# Altium integrated library National Semiconductor Interface.IntLib: 1433 symbols (part 16 of 51)
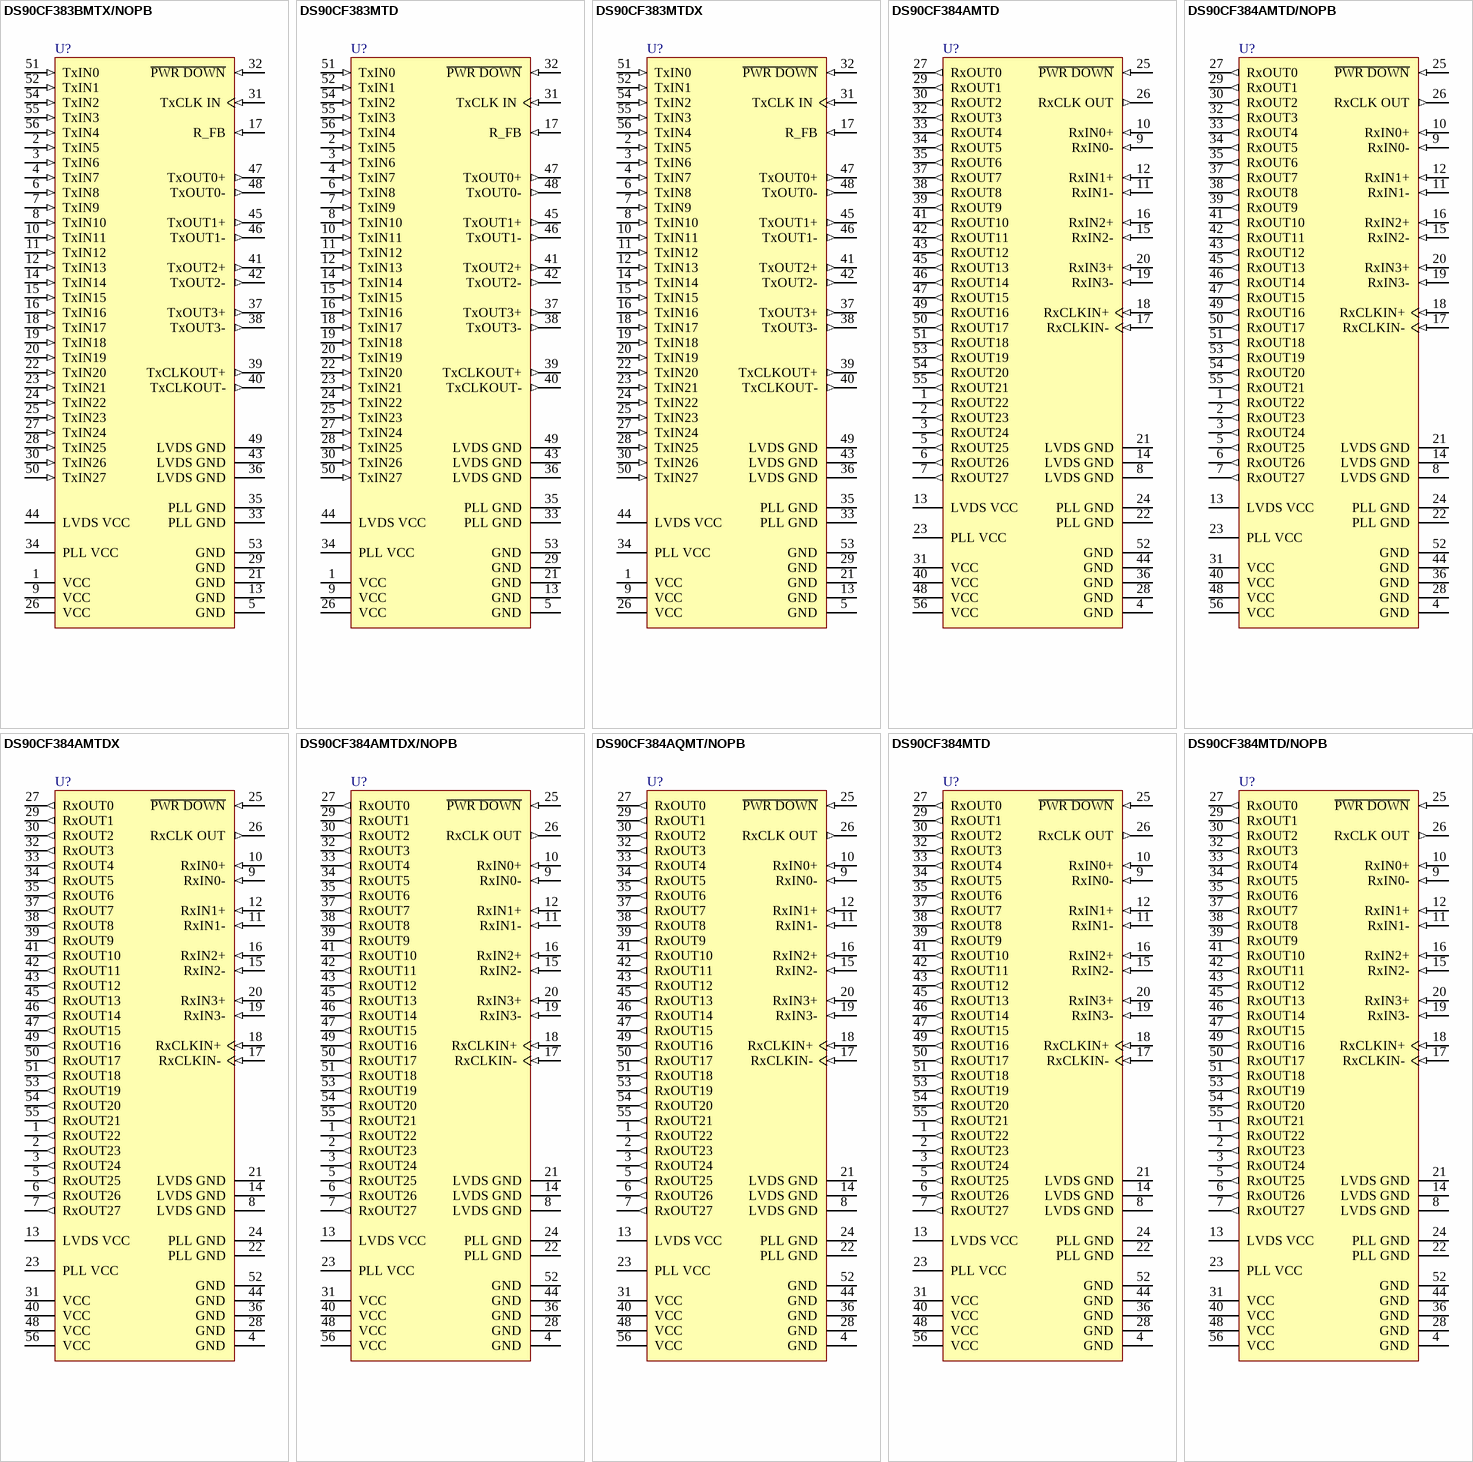
[diagram p139: symbols DS90CF383BMTX/NOPB to DS90CF384MTD/NOPB]

## DS90CF384AMTDX/NOPB
designator U?
+3.3V LVDS Receiver 24-Bit Flat Panel Display (FPD) Link - 65 MHz, 56-pin TSSOP, Pb-Free; PartNumber: DS90CF384AMTDX/NOPB; Manufacturer: National Semiconductor; PackageTopMarking: NS2ZXYTTE#*DS90CF384AMTD*BBBBB; PowerWise: N; CompType: Interface IC; High-Reliability: Y; DatasheetVersion: Jul-2007; PackageVersion: revD, Apr-2003; PackageReference: MTD56; PackageDescription: Molded TSSOP, Jedec, 14 x 6.1 x 0.9mm Body, 56 Lead, 0.50mm Pitch; RoHS: Y; PinCount: 56; Code_IPC: TSSOP50P810-56; ComponentLink1Description: Manufacturer URL; ComponentLink1URL: http://www.national.com/; ComponentLink2Description: DS90CF384A Datasheet; ComponentLink2URL: http://www.national.com/ds/DS/DS90CF384A.pdf; ComponentLink3Description: DS90CF384A Web Page; ComponentLink3URL: http://www.national.com/pf/DS/DS90CF384A.html; ComponentLink4Description: MTD56 Package Page; ComponentLink4URL: http://www.national.com/packaging/folders/mtd56.html
footprint MTD56_N (TSSOP, 56-Leads, Body 14x6.1mm, Pitch 0.5mm, IPC Medium Density)
footprint MTD56_L (TSSOP, 56-Leads, Body 14x6.1mm, Pitch 0.5mm, IPC High Density)
footprint MTD56_M (TSSOP, 56-Leads, Body 14x6.1mm, Pitch 0.5mm, IPC Low Density)
pins: 1 RxOUT22 (out), 2 RxOUT23 (out), 3 RxOUT24 (out), 4 GND (power), 5 RxOUT25 (out), 6 RxOUT26 (out), 7 RxOUT27 (out), 8 LVDS GND (power), 9 RxIN0- (in), 10 RxIN0+ (in), 11 RxIN1- (in), 12 RxIN1+ (in), 13 LVDS VCC (power), 14 LVDS GND (power), 15 RxIN2- (in), 16 RxIN2+ (in), 17 RxCLKIN- (in), 18 RxCLKIN+ (in), 19 RxIN3- (in), 20 RxIN3+ (in), 21 LVDS GND (power), 22 PLL GND (power), 23 PLL VCC (power), 24 PLL GND (power), 25 ~{PWR DOWN} (in), 26 RxCLK OUT (out), 27 RxOUT0 (out), 28 GND (power), 29 RxOUT1 (out), 30 RxOUT2 (out), 31 VCC (power), 32 RxOUT3 (out), 33 RxOUT4 (out), 34 RxOUT5 (out), 35 RxOUT6 (out), 36 GND (power), 37 RxOUT7 (out), 38 RxOUT8 (out), 39 RxOUT9 (out), 40 VCC (power), 41 RxOUT10 (out), 42 RxOUT11 (out), 43 RxOUT12 (out), 44 GND (power), 45 RxOUT13 (out), 46 RxOUT14 (out), 47 RxOUT15 (out), 48 VCC (power), 49 RxOUT16 (out), 50 RxOUT17 (out), 51 RxOUT18 (out), 52 GND (power), 53 RxOUT19 (out), 54 RxOUT20 (out), 55 RxOUT21 (out), 56 VCC (power)

## DS90CF384AQMT/NOPB
designator U?
+3.3V LVDS Receiver 24-Bit Flat Panel Display (FPD) Link - 65MHz, Automotive Grade 3, -40°C to 85°C, 56-pin TSSOP; PartNumber: DS90CF384AQMT/NOPB; Manufacturer: National Semiconductor; PackageTopMarking: NSUZXYTTE#*DS90CF384AQ*MT; PowerWise: N; CompType: Interface IC; High-Reliability: Y; DatasheetVersion: Aug-2011; PackageVersion: revD, Apr-2003; PackageReference: MTD56; PackageDescription: Molded TSSOP, Jedec, 14 x 6.1 x 0.9mm Body, 56 Lead, 0.50mm Pitch; RoHS: Y; PinCount: 56; Code_IPC: TSSOP50P810-56; ComponentLink1Description: Manufacturer URL; ComponentLink1URL: http://www.national.com/; ComponentLink2Description: DS90CF384A Datasheet; ComponentLink2URL: http://www.national.com/ds/DS/DS90CF384AQ.pdf; ComponentLink3Description: DS90CF384A Web Page; ComponentLink3URL: http://www.national.com/pf/DS/DS90CF384AQ.html; ComponentLink4Description: MTD56 Package Page; ComponentLink4URL: http://www.national.com/packaging/folders/mtd56.html
footprint MTD56_N (TSSOP, 56-Leads, Body 14x6.1mm, Pitch 0.5mm, IPC Medium Density)
footprint MTD56_L (TSSOP, 56-Leads, Body 14x6.1mm, Pitch 0.5mm, IPC High Density)
footprint MTD56_M (TSSOP, 56-Leads, Body 14x6.1mm, Pitch 0.5mm, IPC Low Density)
pins: 1 RxOUT22 (out), 2 RxOUT23 (out), 3 RxOUT24 (out), 4 GND (power), 5 RxOUT25 (out), 6 RxOUT26 (out), 7 RxOUT27 (out), 8 LVDS GND (power), 9 RxIN0- (in), 10 RxIN0+ (in), 11 RxIN1- (in), 12 RxIN1+ (in), 13 LVDS VCC (power), 14 LVDS GND (power), 15 RxIN2- (in), 16 RxIN2+ (in), 17 RxCLKIN- (in), 18 RxCLKIN+ (in), 19 RxIN3- (in), 20 RxIN3+ (in), 21 LVDS GND (power), 22 PLL GND (power), 23 PLL VCC (power), 24 PLL GND (power), 25 ~{PWR DOWN} (in), 26 RxCLK OUT (out), 27 RxOUT0 (out), 28 GND (power), 29 RxOUT1 (out), 30 RxOUT2 (out), 31 VCC (power), 32 RxOUT3 (out), 33 RxOUT4 (out), 34 RxOUT5 (out), 35 RxOUT6 (out), 36 GND (power), 37 RxOUT7 (out), 38 RxOUT8 (out), 39 RxOUT9 (out), 40 VCC (power), 41 RxOUT10 (out), 42 RxOUT11 (out), 43 RxOUT12 (out), 44 GND (power), 45 RxOUT13 (out), 46 RxOUT14 (out), 47 RxOUT15 (out), 48 VCC (power), 49 RxOUT16 (out), 50 RxOUT17 (out), 51 RxOUT18 (out), 52 GND (power), 53 RxOUT19 (out), 54 RxOUT20 (out), 55 RxOUT21 (out), 56 VCC (power)

## DS90CF384MTD
designator U?
+3.3V LVDS Receiver 24-Bit Flat Panel Display (FPD) Link - 65 MHz, 56-pin TSSOP; PartNumber: DS90CF384MTD; Manufacturer: National Semiconductor; PackageTopMarking: NS2ZXYTTE#*DS90CF384MTD*BBBBB; PowerWise: N; CompType: Interface IC; High-Reliability: Y; DatasheetVersion: Nov-2000; PackageVersion: revD, Apr-2003; PackageReference: MTD56; PackageDescription: Molded TSSOP, Jedec, 14 x 6.1 x 0.9mm Body, 56 Lead, 0.50mm Pitch; RoHS: N; PinCount: 56; Code_IPC: TSSOP50P810-56; ComponentLink1Description: Manufacturer URL; ComponentLink1URL: http://www.national.com/; ComponentLink2Description: DS90CF384 Datasheet; ComponentLink2URL: http://www.national.com/ds/DS/DS90CF384.pdf; ComponentLink3Description: DS90CF384 Web Page; ComponentLink3URL: http://www.national.com/pf/DS/DS90CF384.html; ComponentLink4Description: MTD56 Package Page; ComponentLink4URL: http://www.national.com/packaging/folders/mtd56.html
footprint MTD56_N (TSSOP, 56-Leads, Body 14x6.1mm, Pitch 0.5mm, IPC Medium Density)
footprint MTD56_L (TSSOP, 56-Leads, Body 14x6.1mm, Pitch 0.5mm, IPC High Density)
footprint MTD56_M (TSSOP, 56-Leads, Body 14x6.1mm, Pitch 0.5mm, IPC Low Density)
pins: 1 RxOUT22 (out), 2 RxOUT23 (out), 3 RxOUT24 (out), 4 GND (power), 5 RxOUT25 (out), 6 RxOUT26 (out), 7 RxOUT27 (out), 8 LVDS GND (power), 9 RxIN0- (in), 10 RxIN0+ (in), 11 RxIN1- (in), 12 RxIN1+ (in), 13 LVDS VCC (power), 14 LVDS GND (power), 15 RxIN2- (in), 16 RxIN2+ (in), 17 RxCLKIN- (in), 18 RxCLKIN+ (in), 19 RxIN3- (in), 20 RxIN3+ (in), 21 LVDS GND (power), 22 PLL GND (power), 23 PLL VCC (power), 24 PLL GND (power), 25 ~{PWR DOWN} (in), 26 RxCLK OUT (out), 27 RxOUT0 (out), 28 GND (power), 29 RxOUT1 (out), 30 RxOUT2 (out), 31 VCC (power), 32 RxOUT3 (out), 33 RxOUT4 (out), 34 RxOUT5 (out), 35 RxOUT6 (out), 36 GND (power), 37 RxOUT7 (out), 38 RxOUT8 (out), 39 RxOUT9 (out), 40 VCC (power), 41 RxOUT10 (out), 42 RxOUT11 (out), 43 RxOUT12 (out), 44 GND (power), 45 RxOUT13 (out), 46 RxOUT14 (out), 47 RxOUT15 (out), 48 VCC (power), 49 RxOUT16 (out), 50 RxOUT17 (out), 51 RxOUT18 (out), 52 GND (power), 53 RxOUT19 (out), 54 RxOUT20 (out), 55 RxOUT21 (out), 56 VCC (power)

## DS90CF384MTD/NOPB
designator U?
+3.3V LVDS Receiver 24-Bit Flat Panel Display (FPD) Link - 65 MHz, 56-pin TSSOP, Pb-Free; PartNumber: DS90CF384MTD/NOPB; Manufacturer: National Semiconductor; PackageTopMarking: NS2ZXYTTE#*DS90CF384MTD*BBBBB; PowerWise: N; CompType: Interface IC; High-Reliability: Y; DatasheetVersion: Nov-2000; PackageVersion: revD, Apr-2003; PackageReference: MTD56; PackageDescription: Molded TSSOP, Jedec, 14 x 6.1 x 0.9mm Body, 56 Lead, 0.50mm Pitch; RoHS: Y; PinCount: 56; Code_IPC: TSSOP50P810-56; ComponentLink1Description: Manufacturer URL; ComponentLink1URL: http://www.national.com/; ComponentLink2Description: DS90CF384 Datasheet; ComponentLink2URL: http://www.national.com/ds/DS/DS90CF384.pdf; ComponentLink3Description: DS90CF384 Web Page; ComponentLink3URL: http://www.national.com/pf/DS/DS90CF384.html; ComponentLink4Description: MTD56 Package Page; ComponentLink4URL: http://www.national.com/packaging/folders/mtd56.html
footprint MTD56_N (TSSOP, 56-Leads, Body 14x6.1mm, Pitch 0.5mm, IPC Medium Density)
footprint MTD56_L (TSSOP, 56-Leads, Body 14x6.1mm, Pitch 0.5mm, IPC High Density)
footprint MTD56_M (TSSOP, 56-Leads, Body 14x6.1mm, Pitch 0.5mm, IPC Low Density)
pins: 1 RxOUT22 (out), 2 RxOUT23 (out), 3 RxOUT24 (out), 4 GND (power), 5 RxOUT25 (out), 6 RxOUT26 (out), 7 RxOUT27 (out), 8 LVDS GND (power), 9 RxIN0- (in), 10 RxIN0+ (in), 11 RxIN1- (in), 12 RxIN1+ (in), 13 LVDS VCC (power), 14 LVDS GND (power), 15 RxIN2- (in), 16 RxIN2+ (in), 17 RxCLKIN- (in), 18 RxCLKIN+ (in), 19 RxIN3- (in), 20 RxIN3+ (in), 21 LVDS GND (power), 22 PLL GND (power), 23 PLL VCC (power), 24 PLL GND (power), 25 ~{PWR DOWN} (in), 26 RxCLK OUT (out), 27 RxOUT0 (out), 28 GND (power), 29 RxOUT1 (out), 30 RxOUT2 (out), 31 VCC (power), 32 RxOUT3 (out), 33 RxOUT4 (out), 34 RxOUT5 (out), 35 RxOUT6 (out), 36 GND (power), 37 RxOUT7 (out), 38 RxOUT8 (out), 39 RxOUT9 (out), 40 VCC (power), 41 RxOUT10 (out), 42 RxOUT11 (out), 43 RxOUT12 (out), 44 GND (power), 45 RxOUT13 (out), 46 RxOUT14 (out), 47 RxOUT15 (out), 48 VCC (power), 49 RxOUT16 (out), 50 RxOUT17 (out), 51 RxOUT18 (out), 52 GND (power), 53 RxOUT19 (out), 54 RxOUT20 (out), 55 RxOUT21 (out), 56 VCC (power)

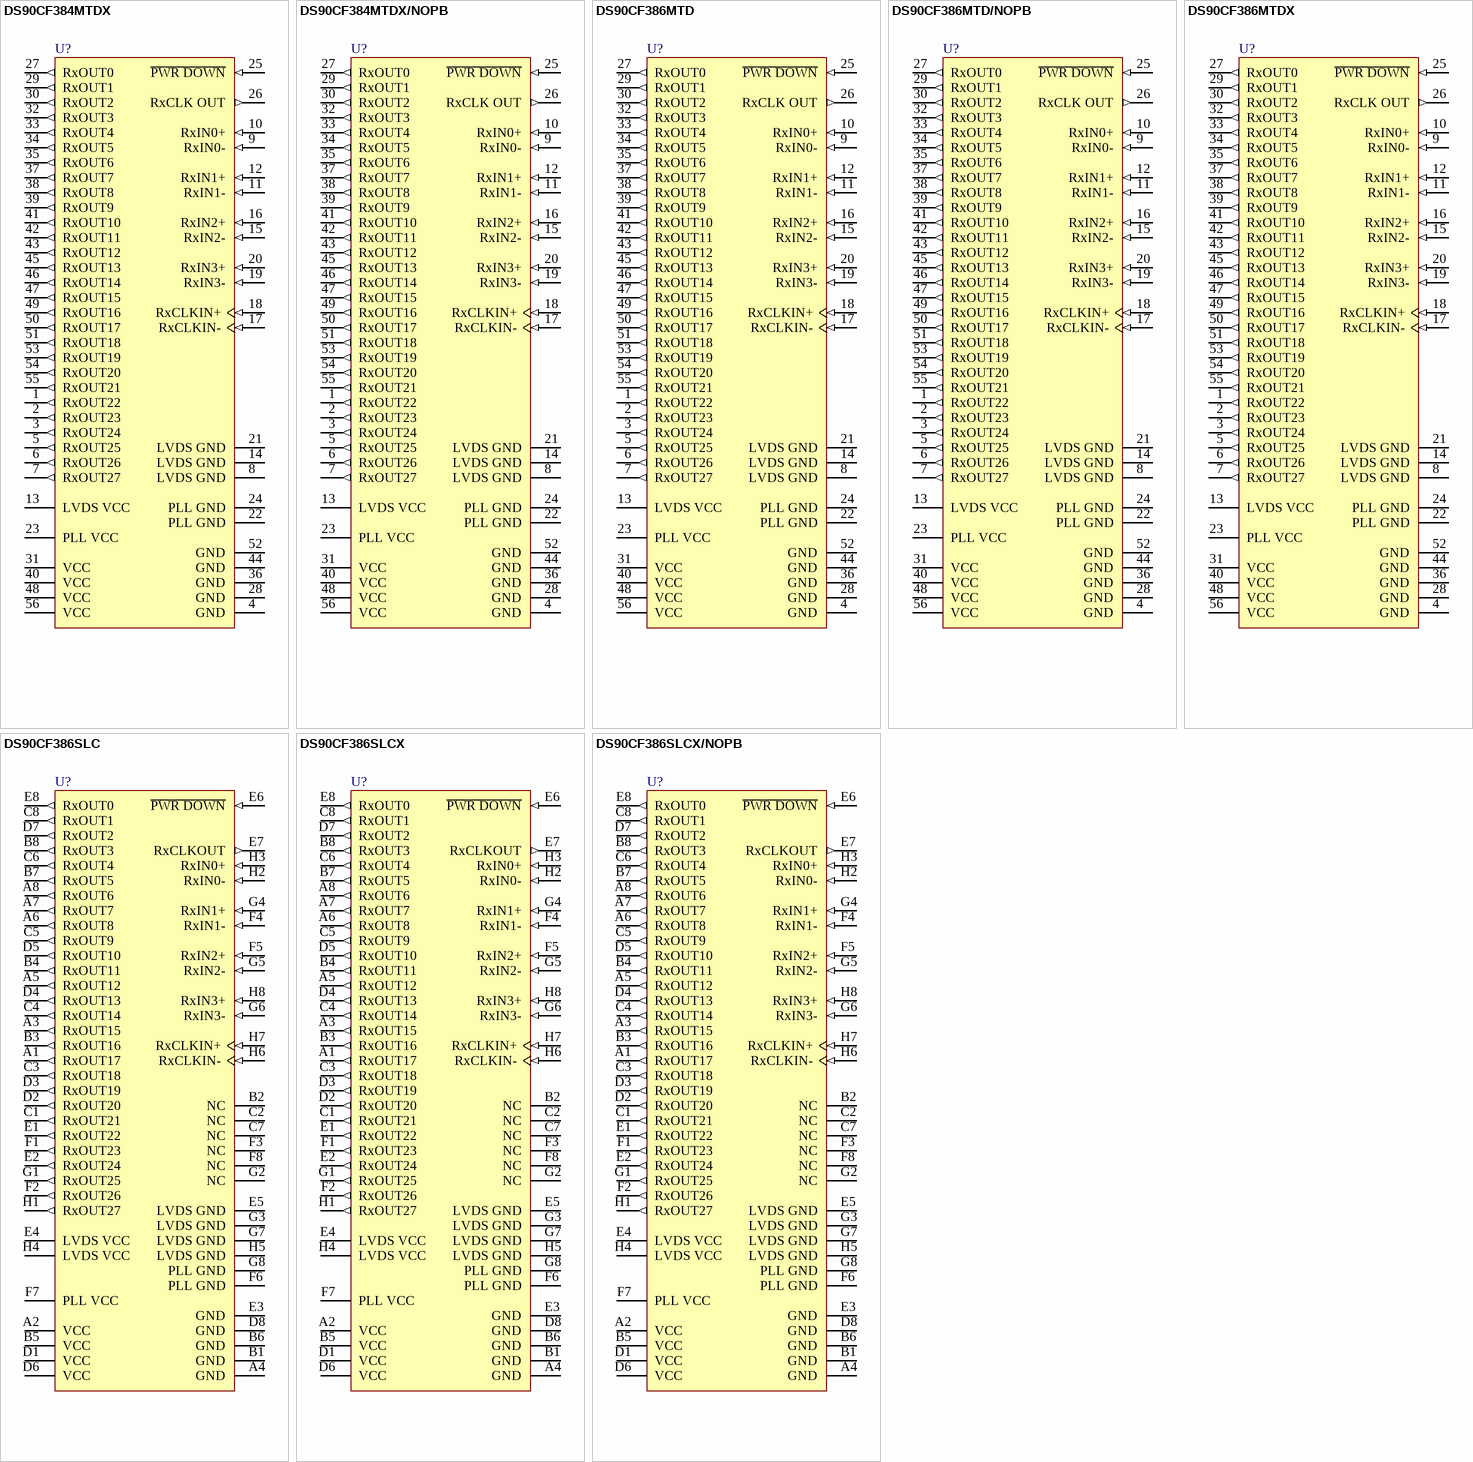
[diagram p41: symbols DS90CF384MTDX to DS90CF386SLCX/NOPB]

## DS90CF384MTDX
designator U?
+3.3V LVDS Receiver 24-Bit Flat Panel Display (FPD) Link - 65 MHz, 56-pin TSSOP; PartNumber: DS90CF384MTDX; Manufacturer: National Semiconductor; PackageTopMarking: NS2ZXYTTE#*DS90CF384MTD*BBBBB; PowerWise: N; CompType: Interface IC; High-Reliability: Y; DatasheetVersion: Nov-2000; PackageVersion: revD, Apr-2003; PackageReference: MTD56; PackageDescription: Molded TSSOP, Jedec, 14 x 6.1 x 0.9mm Body, 56 Lead, 0.50mm Pitch; RoHS: N; PinCount: 56; Code_IPC: TSSOP50P810-56; ComponentLink1Description: Manufacturer URL; ComponentLink1URL: http://www.national.com/; ComponentLink2Description: DS90CF384 Datasheet; ComponentLink2URL: http://www.national.com/ds/DS/DS90CF384.pdf; ComponentLink3Description: DS90CF384 Web Page; ComponentLink3URL: http://www.national.com/pf/DS/DS90CF384.html; ComponentLink4Description: MTD56 Package Page; ComponentLink4URL: http://www.national.com/packaging/folders/mtd56.html
footprint MTD56_N (TSSOP, 56-Leads, Body 14x6.1mm, Pitch 0.5mm, IPC Medium Density)
footprint MTD56_L (TSSOP, 56-Leads, Body 14x6.1mm, Pitch 0.5mm, IPC High Density)
footprint MTD56_M (TSSOP, 56-Leads, Body 14x6.1mm, Pitch 0.5mm, IPC Low Density)
pins: 1 RxOUT22 (out), 2 RxOUT23 (out), 3 RxOUT24 (out), 4 GND (power), 5 RxOUT25 (out), 6 RxOUT26 (out), 7 RxOUT27 (out), 8 LVDS GND (power), 9 RxIN0- (in), 10 RxIN0+ (in), 11 RxIN1- (in), 12 RxIN1+ (in), 13 LVDS VCC (power), 14 LVDS GND (power), 15 RxIN2- (in), 16 RxIN2+ (in), 17 RxCLKIN- (in), 18 RxCLKIN+ (in), 19 RxIN3- (in), 20 RxIN3+ (in), 21 LVDS GND (power), 22 PLL GND (power), 23 PLL VCC (power), 24 PLL GND (power), 25 ~{PWR DOWN} (in), 26 RxCLK OUT (out), 27 RxOUT0 (out), 28 GND (power), 29 RxOUT1 (out), 30 RxOUT2 (out), 31 VCC (power), 32 RxOUT3 (out), 33 RxOUT4 (out), 34 RxOUT5 (out), 35 RxOUT6 (out), 36 GND (power), 37 RxOUT7 (out), 38 RxOUT8 (out), 39 RxOUT9 (out), 40 VCC (power), 41 RxOUT10 (out), 42 RxOUT11 (out), 43 RxOUT12 (out), 44 GND (power), 45 RxOUT13 (out), 46 RxOUT14 (out), 47 RxOUT15 (out), 48 VCC (power), 49 RxOUT16 (out), 50 RxOUT17 (out), 51 RxOUT18 (out), 52 GND (power), 53 RxOUT19 (out), 54 RxOUT20 (out), 55 RxOUT21 (out), 56 VCC (power)

## DS90CF384MTDX/NOPB
designator U?
+3.3V LVDS Receiver 24-Bit Flat Panel Display (FPD) Link - 65 MHz, 56-pin TSSOP, Pb-Free; PartNumber: DS90CF384MTDX/NOPB; Manufacturer: National Semiconductor; PackageTopMarking: NS2ZXYTTE#*DS90CF384MTD*BBBBB; PowerWise: N; CompType: Interface IC; High-Reliability: Y; DatasheetVersion: Nov-2000; PackageVersion: revD, Apr-2003; PackageReference: MTD56; PackageDescription: Molded TSSOP, Jedec, 14 x 6.1 x 0.9mm Body, 56 Lead, 0.50mm Pitch; RoHS: Y; PinCount: 56; Code_IPC: TSSOP50P810-56; ComponentLink1Description: Manufacturer URL; ComponentLink1URL: http://www.national.com/; ComponentLink2Description: DS90CF384 Datasheet; ComponentLink2URL: http://www.national.com/ds/DS/DS90CF384.pdf; ComponentLink3Description: DS90CF384 Web Page; ComponentLink3URL: http://www.national.com/pf/DS/DS90CF384.html; ComponentLink4Description: MTD56 Package Page; ComponentLink4URL: http://www.national.com/packaging/folders/mtd56.html
footprint MTD56_N (TSSOP, 56-Leads, Body 14x6.1mm, Pitch 0.5mm, IPC Medium Density)
footprint MTD56_L (TSSOP, 56-Leads, Body 14x6.1mm, Pitch 0.5mm, IPC High Density)
footprint MTD56_M (TSSOP, 56-Leads, Body 14x6.1mm, Pitch 0.5mm, IPC Low Density)
pins: 1 RxOUT22 (out), 2 RxOUT23 (out), 3 RxOUT24 (out), 4 GND (power), 5 RxOUT25 (out), 6 RxOUT26 (out), 7 RxOUT27 (out), 8 LVDS GND (power), 9 RxIN0- (in), 10 RxIN0+ (in), 11 RxIN1- (in), 12 RxIN1+ (in), 13 LVDS VCC (power), 14 LVDS GND (power), 15 RxIN2- (in), 16 RxIN2+ (in), 17 RxCLKIN- (in), 18 RxCLKIN+ (in), 19 RxIN3- (in), 20 RxIN3+ (in), 21 LVDS GND (power), 22 PLL GND (power), 23 PLL VCC (power), 24 PLL GND (power), 25 ~{PWR DOWN} (in), 26 RxCLK OUT (out), 27 RxOUT0 (out), 28 GND (power), 29 RxOUT1 (out), 30 RxOUT2 (out), 31 VCC (power), 32 RxOUT3 (out), 33 RxOUT4 (out), 34 RxOUT5 (out), 35 RxOUT6 (out), 36 GND (power), 37 RxOUT7 (out), 38 RxOUT8 (out), 39 RxOUT9 (out), 40 VCC (power), 41 RxOUT10 (out), 42 RxOUT11 (out), 43 RxOUT12 (out), 44 GND (power), 45 RxOUT13 (out), 46 RxOUT14 (out), 47 RxOUT15 (out), 48 VCC (power), 49 RxOUT16 (out), 50 RxOUT17 (out), 51 RxOUT18 (out), 52 GND (power), 53 RxOUT19 (out), 54 RxOUT20 (out), 55 RxOUT21 (out), 56 VCC (power)

## DS90CF386MTD
designator U?
+3.3V LVDS Receiver 24-Bit Flat Panel Display (FPD) Link - 85 MHz, 56-pin TSSOP; PartNumber: DS90CF386MTD; Manufacturer: National Semiconductor; PackageTopMarking: NSUZXYTTE#*DS90CF386MTD*BBBBB; PowerWise: N; CompType: Interface IC; High-Reliability: Y; DatasheetVersion: Feb-2006; PackageVersion: revD, Apr-2003; PackageReference: MTD56; PackageDescription: Molded TSSOP, Jedec, 14 x 6.1 x 0.9mm Body, 56 Lead, 0.50mm Pitch; RoHS: N; PinCount: 56; Code_IPC: TSSOP50P810-56; ComponentLink1Description: Manufacturer URL; ComponentLink1URL: http://www.national.com/; ComponentLink2Description: DS90CF386 Datasheet; ComponentLink2URL: http://www.national.com/ds/DS/DS90CF386.pdf; ComponentLink3Description: DS90CF386 Web Page; ComponentLink3URL: http://www.national.com/pf/DS/DS90CF386.html; ComponentLink4Description: MTD56 Package Page; ComponentLink4URL: http://www.national.com/packaging/folders/mtd56.html
footprint MTD56_N (TSSOP, 56-Leads, Body 14x6.1mm, Pitch 0.5mm, IPC Medium Density)
footprint MTD56_L (TSSOP, 56-Leads, Body 14x6.1mm, Pitch 0.5mm, IPC High Density)
footprint MTD56_M (TSSOP, 56-Leads, Body 14x6.1mm, Pitch 0.5mm, IPC Low Density)
pins: 1 RxOUT22 (out), 2 RxOUT23 (out), 3 RxOUT24 (out), 4 GND (power), 5 RxOUT25 (out), 6 RxOUT26 (out), 7 RxOUT27 (out), 8 LVDS GND (power), 9 RxIN0- (in), 10 RxIN0+ (in), 11 RxIN1- (in), 12 RxIN1+ (in), 13 LVDS VCC (power), 14 LVDS GND (power), 15 RxIN2- (in), 16 RxIN2+ (in), 17 RxCLKIN- (in), 18 RxCLKIN+ (in), 19 RxIN3- (in), 20 RxIN3+ (in), 21 LVDS GND (power), 22 PLL GND (power), 23 PLL VCC (power), 24 PLL GND (power), 25 ~{PWR DOWN} (in), 26 RxCLK OUT (out), 27 RxOUT0 (out), 28 GND (power), 29 RxOUT1 (out), 30 RxOUT2 (out), 31 VCC (power), 32 RxOUT3 (out), 33 RxOUT4 (out), 34 RxOUT5 (out), 35 RxOUT6 (out), 36 GND (power), 37 RxOUT7 (out), 38 RxOUT8 (out), 39 RxOUT9 (out), 40 VCC (power), 41 RxOUT10 (out), 42 RxOUT11 (out), 43 RxOUT12 (out), 44 GND (power), 45 RxOUT13 (out), 46 RxOUT14 (out), 47 RxOUT15 (out), 48 VCC (power), 49 RxOUT16 (out), 50 RxOUT17 (out), 51 RxOUT18 (out), 52 GND (power), 53 RxOUT19 (out), 54 RxOUT20 (out), 55 RxOUT21 (out), 56 VCC (power)

## DS90CF386MTD/NOPB
designator U?
+3.3V LVDS Receiver 24-Bit Flat Panel Display (FPD) Link - 85 MHz, 56-pin TSSOP, Pb-Free; PartNumber: DS90CF386MTD/NOPB; Manufacturer: National Semiconductor; PackageTopMarking: NSUZXYTTE#*DS90CF386MTD*BBBBB; PowerWise: N; CompType: Interface IC; High-Reliability: Y; DatasheetVersion: Feb-2006; PackageVersion: revD, Apr-2003; PackageReference: MTD56; PackageDescription: Molded TSSOP, Jedec, 14 x 6.1 x 0.9mm Body, 56 Lead, 0.50mm Pitch; RoHS: Y; PinCount: 56; Code_IPC: TSSOP50P810-56; ComponentLink1Description: Manufacturer URL; ComponentLink1URL: http://www.national.com/; ComponentLink2Description: DS90CF386 Datasheet; ComponentLink2URL: http://www.national.com/ds/DS/DS90CF386.pdf; ComponentLink3Description: DS90CF386 Web Page; ComponentLink3URL: http://www.national.com/pf/DS/DS90CF386.html; ComponentLink4Description: MTD56 Package Page; ComponentLink4URL: http://www.national.com/packaging/folders/mtd56.html
footprint MTD56_N (TSSOP, 56-Leads, Body 14x6.1mm, Pitch 0.5mm, IPC Medium Density)
footprint MTD56_L (TSSOP, 56-Leads, Body 14x6.1mm, Pitch 0.5mm, IPC High Density)
footprint MTD56_M (TSSOP, 56-Leads, Body 14x6.1mm, Pitch 0.5mm, IPC Low Density)
pins: 1 RxOUT22 (out), 2 RxOUT23 (out), 3 RxOUT24 (out), 4 GND (power), 5 RxOUT25 (out), 6 RxOUT26 (out), 7 RxOUT27 (out), 8 LVDS GND (power), 9 RxIN0- (in), 10 RxIN0+ (in), 11 RxIN1- (in), 12 RxIN1+ (in), 13 LVDS VCC (power), 14 LVDS GND (power), 15 RxIN2- (in), 16 RxIN2+ (in), 17 RxCLKIN- (in), 18 RxCLKIN+ (in), 19 RxIN3- (in), 20 RxIN3+ (in), 21 LVDS GND (power), 22 PLL GND (power), 23 PLL VCC (power), 24 PLL GND (power), 25 ~{PWR DOWN} (in), 26 RxCLK OUT (out), 27 RxOUT0 (out), 28 GND (power), 29 RxOUT1 (out), 30 RxOUT2 (out), 31 VCC (power), 32 RxOUT3 (out), 33 RxOUT4 (out), 34 RxOUT5 (out), 35 RxOUT6 (out), 36 GND (power), 37 RxOUT7 (out), 38 RxOUT8 (out), 39 RxOUT9 (out), 40 VCC (power), 41 RxOUT10 (out), 42 RxOUT11 (out), 43 RxOUT12 (out), 44 GND (power), 45 RxOUT13 (out), 46 RxOUT14 (out), 47 RxOUT15 (out), 48 VCC (power), 49 RxOUT16 (out), 50 RxOUT17 (out), 51 RxOUT18 (out), 52 GND (power), 53 RxOUT19 (out), 54 RxOUT20 (out), 55 RxOUT21 (out), 56 VCC (power)

## DS90CF386MTDX
designator U?
+3.3V LVDS Receiver 24-Bit Flat Panel Display (FPD) Link - 85 MHz, 56-pin TSSOP; PartNumber: DS90CF386MTDX; Manufacturer: National Semiconductor; PackageTopMarking: NSUZXYTTE#*DS90CF386MTD*BBBBB; PowerWise: N; CompType: Interface IC; High-Reliability: Y; DatasheetVersion: Feb-2006; PackageVersion: revD, Apr-2003; PackageReference: MTD56; PackageDescription: Molded TSSOP, Jedec, 14 x 6.1 x 0.9mm Body, 56 Lead, 0.50mm Pitch; RoHS: N; PinCount: 56; Code_IPC: TSSOP50P810-56; ComponentLink1Description: Manufacturer URL; ComponentLink1URL: http://www.national.com/; ComponentLink2Description: DS90CF386 Datasheet; ComponentLink2URL: http://www.national.com/ds/DS/DS90CF386.pdf; ComponentLink3Description: DS90CF386 Web Page; ComponentLink3URL: http://www.national.com/pf/DS/DS90CF386.html; ComponentLink4Description: MTD56 Package Page; ComponentLink4URL: http://www.national.com/packaging/folders/mtd56.html
footprint MTD56_N (TSSOP, 56-Leads, Body 14x6.1mm, Pitch 0.5mm, IPC Medium Density)
footprint MTD56_L (TSSOP, 56-Leads, Body 14x6.1mm, Pitch 0.5mm, IPC High Density)
footprint MTD56_M (TSSOP, 56-Leads, Body 14x6.1mm, Pitch 0.5mm, IPC Low Density)
pins: 1 RxOUT22 (out), 2 RxOUT23 (out), 3 RxOUT24 (out), 4 GND (power), 5 RxOUT25 (out), 6 RxOUT26 (out), 7 RxOUT27 (out), 8 LVDS GND (power), 9 RxIN0- (in), 10 RxIN0+ (in), 11 RxIN1- (in), 12 RxIN1+ (in), 13 LVDS VCC (power), 14 LVDS GND (power), 15 RxIN2- (in), 16 RxIN2+ (in), 17 RxCLKIN- (in), 18 RxCLKIN+ (in), 19 RxIN3- (in), 20 RxIN3+ (in), 21 LVDS GND (power), 22 PLL GND (power), 23 PLL VCC (power), 24 PLL GND (power), 25 ~{PWR DOWN} (in), 26 RxCLK OUT (out), 27 RxOUT0 (out), 28 GND (power), 29 RxOUT1 (out), 30 RxOUT2 (out), 31 VCC (power), 32 RxOUT3 (out), 33 RxOUT4 (out), 34 RxOUT5 (out), 35 RxOUT6 (out), 36 GND (power), 37 RxOUT7 (out), 38 RxOUT8 (out), 39 RxOUT9 (out), 40 VCC (power), 41 RxOUT10 (out), 42 RxOUT11 (out), 43 RxOUT12 (out), 44 GND (power), 45 RxOUT13 (out), 46 RxOUT14 (out), 47 RxOUT15 (out), 48 VCC (power), 49 RxOUT16 (out), 50 RxOUT17 (out), 51 RxOUT18 (out), 52 GND (power), 53 RxOUT19 (out), 54 RxOUT20 (out), 55 RxOUT21 (out), 56 VCC (power)

## DS90CF386SLC
designator U?
+3.3V LVDS Receiver 24-Bit Flat Panel Display (FPD) Link - 85 MHz, 64-pin FBGA; PartNumber: DS90CF386SLC; Manufacturer: National Semiconductor; PackageTopMarking: NSUZXYTTE#*DS90CF386*SLC*BBBBB; PowerWise: N; CompType: Interface IC; High-Reliability: Y; DatasheetVersion: Feb-2006; PackageVersion: revC, Jan, 2003; PackageReference: SLC64A; PackageDescription: FBGA, Plastic, Laminated, 8 x 8 x 1.4mm Body, 64 Ball, 0.8mm Pitch; RoHS: N; PinCount: 64; ComponentLink1Description: Manufacturer URL; ComponentLink1URL: http://www.national.com/; ComponentLink2Description: DS90CF386 Datasheet; ComponentLink2URL: http://www.national.com/ds/DS/DS90CF386.pdf; ComponentLink3Description: DS90CF386 Web Page; ComponentLink3URL: http://www.national.com/pf/DS/DS90CF386.html; ComponentLink4Description: SLC64A Package Page; ComponentLink4URL: http://www.national.com/packaging/folders/slc64a.html
footprint SLC64A (BGA, 64-Leads, Body 8x8mm, Pitch 0.8mm)
pins: A1 RxOUT17 (out), A2 VCC (power), A3 RxOUT15 (out), A4 GND (power), A5 RxOUT12 (out), A6 RxOUT8 (out), A7 RxOUT7 (out), A8 RxOUT6 (out), B1 GND (power), B2 NC, B3 RxOUT16 (out), B4 RxOUT11 (out), B5 VCC (power), B6 GND (power), B7 RxOUT5 (out), B8 RxOUT3 (out), C1 RxOUT21 (out), C2 NC, C3 RxOUT18 (out), C4 RxOUT14 (out), C5 RxOUT9 (out), C6 RxOUT4 (out), C7 NC, C8 RxOUT1 (out), D1 VCC (power), D2 RxOUT20 (out), D3 RxOUT19 (out), D4 RxOUT13 (out), D5 RxOUT10 (out), D6 VCC (power), D7 RxOUT2 (out), D8 GND (power), E1 RxOUT22 (out), E2 RxOUT24 (out), E3 GND (power), E4 LVDS VCC (power), E5 LVDS GND (power), E6 ~{PWR DOWN} (in), E7 RxCLKOUT (out), E8 RxOUT0 (out), F1 RxOUT23 (out), F2 RxOUT26 (out), F3 NC, F4 RxIN1- (in), F5 RxIN2+ (in), F6 PLL GND (power), F7 PLL VCC (power), F8 NC, G1 RxOUT25 (out), G2 NC, G3 LVDS GND (power), G4 RxIN1+ (in), G5 RxIN2- (in), G6 RxIN3- (in), G7 LVDS GND (power), G8 PLL GND (power), H1 RxOUT27 (out), H2 RxIN0- (in), H3 RxIN0+ (in), H4 LVDS VCC (power), H5 LVDS GND (power), H6 RxCLKIN- (in), H7 RxCLKIN+ (in), H8 RxIN3+ (in)

## DS90CF386SLCX
designator U?
+3.3V LVDS Receiver 24-Bit Flat Panel Display (FPD) Link - 85 MHz, 64-pin FBGA; PartNumber: DS90CF386SLCX; Manufacturer: National Semiconductor; PackageTopMarking: NSUZXYTTE#*DS90CF386*SLC*BBBBB; PowerWise: N; CompType: Interface IC; High-Reliability: Y; DatasheetVersion: Feb-2006; PackageVersion: revC, Jan, 2003; PackageReference: SLC64A; PackageDescription: FBGA, Plastic, Laminated, 8 x 8 x 1.4mm Body, 64 Ball, 0.8mm Pitch; RoHS: N; PinCount: 64; ComponentLink1Description: Manufacturer URL; ComponentLink1URL: http://www.national.com/; ComponentLink2Description: DS90CF386 Datasheet; ComponentLink2URL: http://www.national.com/ds/DS/DS90CF386.pdf; ComponentLink3Description: DS90CF386 Web Page; ComponentLink3URL: http://www.national.com/pf/DS/DS90CF386.html; ComponentLink4Description: SLC64A Package Page; ComponentLink4URL: http://www.national.com/packaging/folders/slc64a.html
footprint SLC64A (BGA, 64-Leads, Body 8x8mm, Pitch 0.8mm)
pins: A1 RxOUT17 (out), A2 VCC (power), A3 RxOUT15 (out), A4 GND (power), A5 RxOUT12 (out), A6 RxOUT8 (out), A7 RxOUT7 (out), A8 RxOUT6 (out), B1 GND (power), B2 NC, B3 RxOUT16 (out), B4 RxOUT11 (out), B5 VCC (power), B6 GND (power), B7 RxOUT5 (out), B8 RxOUT3 (out), C1 RxOUT21 (out), C2 NC, C3 RxOUT18 (out), C4 RxOUT14 (out), C5 RxOUT9 (out), C6 RxOUT4 (out), C7 NC, C8 RxOUT1 (out), D1 VCC (power), D2 RxOUT20 (out), D3 RxOUT19 (out), D4 RxOUT13 (out), D5 RxOUT10 (out), D6 VCC (power), D7 RxOUT2 (out), D8 GND (power), E1 RxOUT22 (out), E2 RxOUT24 (out), E3 GND (power), E4 LVDS VCC (power), E5 LVDS GND (power), E6 ~{PWR DOWN} (in), E7 RxCLKOUT (out), E8 RxOUT0 (out), F1 RxOUT23 (out), F2 RxOUT26 (out), F3 NC, F4 RxIN1- (in), F5 RxIN2+ (in), F6 PLL GND (power), F7 PLL VCC (power), F8 NC, G1 RxOUT25 (out), G2 NC, G3 LVDS GND (power), G4 RxIN1+ (in), G5 RxIN2- (in), G6 RxIN3- (in), G7 LVDS GND (power), G8 PLL GND (power), H1 RxOUT27 (out), H2 RxIN0- (in), H3 RxIN0+ (in), H4 LVDS VCC (power), H5 LVDS GND (power), H6 RxCLKIN- (in), H7 RxCLKIN+ (in), H8 RxIN3+ (in)

## DS90CF386SLCX/NOPB
designator U?
+3.3V LVDS Receiver 24-Bit Flat Panel Display (FPD) Link - 85 MHz, 64-pin FBGA, Pb-Free; PartNumber: DS90CF386SLCX/NOPB; Manufacturer: National Semiconductor; PackageTopMarking: NSUZXYTTE#*DS90CF386*SLC*BBBBB; PowerWise: N; CompType: Interface IC; High-Reliability: Y; DatasheetVersion: Feb-2006; PackageVersion: revC, Jan, 2003; PackageReference: SLC64A; PackageDescription: FBGA, Plastic, Laminated, 8 x 8 x 1.4mm Body, 64 Ball, 0.8mm Pitch; RoHS: Y; PinCount: 64; ComponentLink1Description: Manufacturer URL; ComponentLink1URL: http://www.national.com/; ComponentLink2Description: DS90CF386 Datasheet; ComponentLink2URL: http://www.national.com/ds/DS/DS90CF386.pdf; ComponentLink3Description: DS90CF386 Web Page; ComponentLink3URL: http://www.national.com/pf/DS/DS90CF386.html; ComponentLink4Description: SLC64A Package Page; ComponentLink4URL: http://www.national.com/packaging/folders/slc64a.html
footprint SLC64A (BGA, 64-Leads, Body 8x8mm, Pitch 0.8mm)
pins: A1 RxOUT17 (out), A2 VCC (power), A3 RxOUT15 (out), A4 GND (power), A5 RxOUT12 (out), A6 RxOUT8 (out), A7 RxOUT7 (out), A8 RxOUT6 (out), B1 GND (power), B2 NC, B3 RxOUT16 (out), B4 RxOUT11 (out), B5 VCC (power), B6 GND (power), B7 RxOUT5 (out), B8 RxOUT3 (out), C1 RxOUT21 (out), C2 NC, C3 RxOUT18 (out), C4 RxOUT14 (out), C5 RxOUT9 (out), C6 RxOUT4 (out), C7 NC, C8 RxOUT1 (out), D1 VCC (power), D2 RxOUT20 (out), D3 RxOUT19 (out), D4 RxOUT13 (out), D5 RxOUT10 (out), D6 VCC (power), D7 RxOUT2 (out), D8 GND (power), E1 RxOUT22 (out), E2 RxOUT24 (out), E3 GND (power), E4 LVDS VCC (power), E5 LVDS GND (power), E6 ~{PWR DOWN} (in), E7 RxCLKOUT (out), E8 RxOUT0 (out), F1 RxOUT23 (out), F2 RxOUT26 (out), F3 NC, F4 RxIN1- (in), F5 RxIN2+ (in), F6 PLL GND (power), F7 PLL VCC (power), F8 NC, G1 RxOUT25 (out), G2 NC, G3 LVDS GND (power), G4 RxIN1+ (in), G5 RxIN2- (in), G6 RxIN3- (in), G7 LVDS GND (power), G8 PLL GND (power), H1 RxOUT27 (out), H2 RxIN0- (in), H3 RxIN0+ (in), H4 LVDS VCC (power), H5 LVDS GND (power), H6 RxCLKIN- (in), H7 RxCLKIN+ (in), H8 RxIN3+ (in)

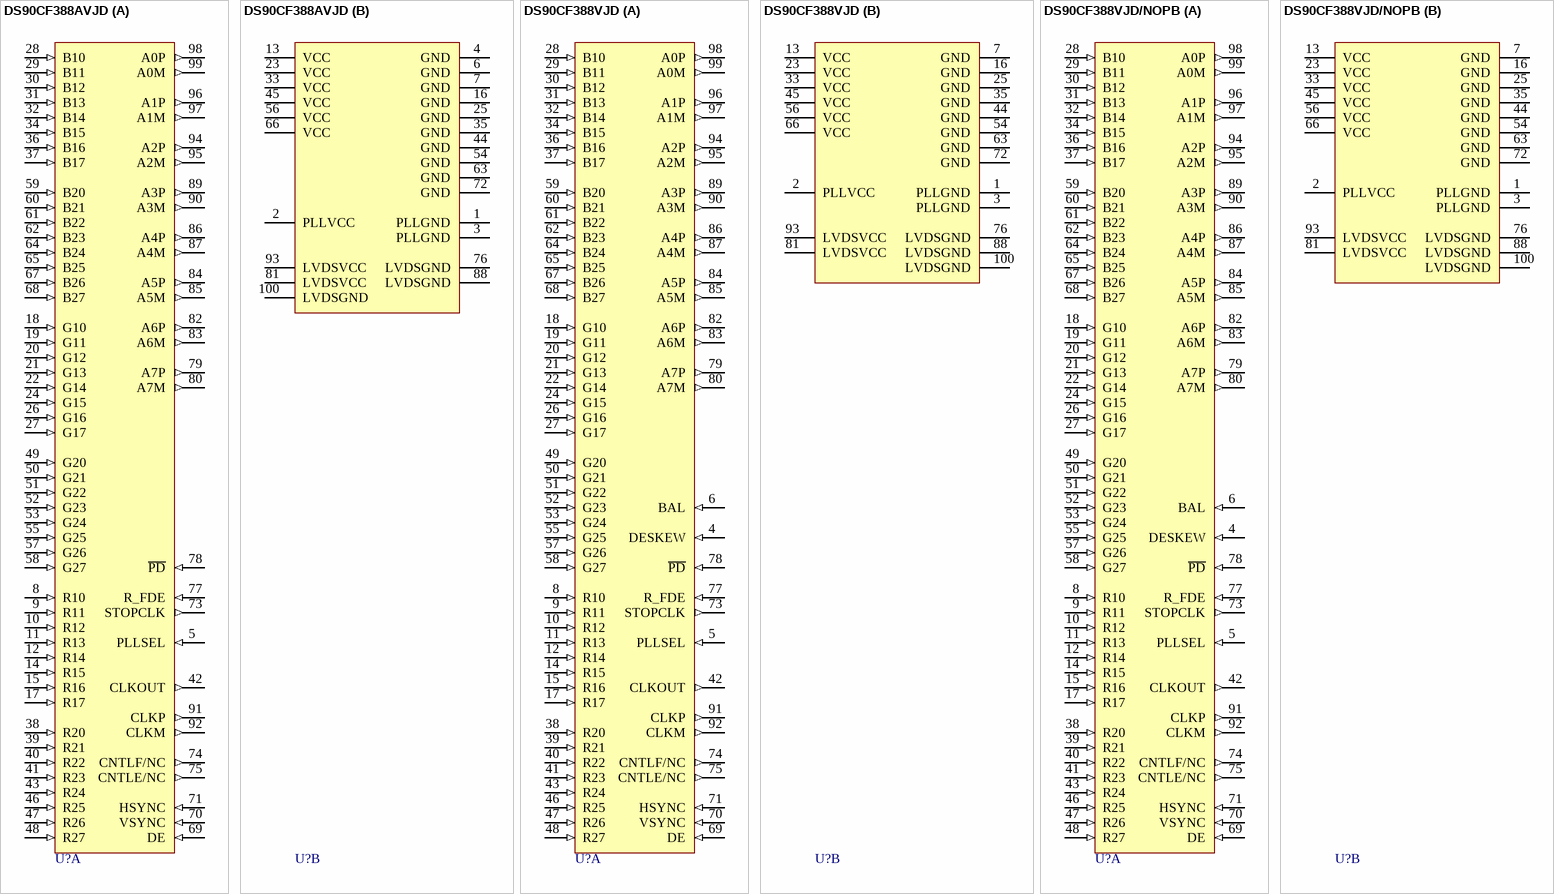
[diagram p42: symbols DS90CF388AVJD to DS90CF388VJD/NOPB]

## DS90CF388AVJD
designator U?
Dual Pixel LVDS Display Interface / FPD-Link Receiver, 100-pin TQFP; PartNumber: DS90CF388AVJD; Manufacturer: National Semiconductor; PackageTopMarking: NS2ZXYYTTE#*DS90CF388AVJD*BBBBB; PowerWise: N; CompType: Interface IC; High-Reliability: Y; DatasheetVersion: Feb-2006; PackageVersion: revC, May-2004; PackageReference: VJD100A; PackageDescription: TQFP, Jedec, Metric, 14 x 14 x 1.0mm, 100 Lead; RoHS: N; PinCount: 100; Code_JEDEC: MS-026-AED; ComponentLink1Description: Manufacturer URL; ComponentLink1URL: http://www.national.com/; ComponentLink2Description: DS90CF388A Datasheet; ComponentLink2URL: http://www.national.com/ds/DS/DS90CF388A.pdf; ComponentLink3Description: DS90CF388A Web Page; ComponentLink3URL: http://www.national.com/pf/DS/DS90CF388A.html; ComponentLink4Description: VJD100A Package Page; ComponentLink4URL: http://www.national.com/packaging/folders/vjd100a.html
footprint VJD100A_N (Thin QFP, 100-Leads, Body 14x14mm, Pitch 0.5mm, IPC Medium Density)
footprint VJD100A_L (Thin QFP, 100-Leads, Body 14x14mm, Pitch 0.5mm, IPC High Density)
footprint VJD100A_M (Thin QFP, 100-Leads, Body 14x14mm, Pitch 0.5mm, IPC Low Density)
part A pins: 5 PLLSEL (in), 8 R10 (in), 9 R11 (in), 10 R12 (in), 11 R13 (in), 12 R14 (in), 14 R15 (in), 15 R16 (in), 17 R17 (in), 18 G10 (in), 19 G11 (in), 20 G12 (in), 21 G13 (in), 22 G14 (in), 24 G15 (in), 26 G16 (in), 27 G17 (in), 28 B10 (in), 29 B11 (in), 30 B12 (in), 31 B13 (in), 32 B14 (in), 34 B15 (in), 36 B16 (in), 37 B17 (in), 38 R20 (in), 39 R21 (in), 40 R22 (in), 41 R23 (in), 42 CLKOUT (out), 43 R24 (in), 46 R25 (in), 47 R26 (in), 48 R27 (in), 49 G20 (in), 50 G21 (in), 51 G22 (in), 52 G23 (in), 53 G24 (in), 55 G25 (in), 57 G26 (in), 58 G27 (in), 59 B20 (in), 60 B21 (in), 61 B22 (in), 62 B23 (in), 64 B24 (in), 65 B25 (in), 67 B26 (in), 68 B27 (in), 69 DE (in), 70 VSYNC (in), 71 HSYNC (in), 73 STOPCLK (out), 74 CNTLF/NC (out), 75 CNTLE/NC (out), 77 R_FDE (in), 78 ~{PD} (in), 79 A7P (out), 80 A7M (out), 82 A6P (out), 83 A6M (out), 84 A5P (out), 85 A5M (out), 86 A4P (out), 87 A4M (out), 89 A3P (out), 90 A3M (out), 91 CLKP (out), 92 CLKM (out), 94 A2P (out), 95 A2M (out), 96 A1P (out), 97 A1M (out), 98 A0P (out), 99 A0M (out)
part B pins: 1 PLLGND (power), 2 PLLVCC (power), 3 PLLGND (power), 4 GND (power), 6 GND (power), 7 GND (power), 13 VCC (power), 16 GND (power), 23 VCC (power), 25 GND (power), 33 VCC (power), 35 GND (power), 44 GND (power), 45 VCC (power), 54 GND (power), 56 VCC (power), 63 GND (power), 66 VCC (power), 72 GND (power), 76 LVDSGND (power), 81 LVDSVCC (power), 88 LVDSGND (power), 93 LVDSVCC (power), 100 LVDSGND (power)

## DS90CF388VJD
designator U?
+3.3V Dual Pixel LVDS Display Interface (LDI)-SVGA/QXGA, 100-pin TQFP; PartNumber: DS90CF388VJD; Manufacturer: National Semiconductor; PackageTopMarking: NS2ZXYYTTE#*DS90CF388VJD*BBBBB; PowerWise: N; CompType: Interface IC; High-Reliability: Y; DatasheetVersion: Feb-2006; PackageVersion: revC, May-2004; PackageReference: VJD100A; PackageDescription: TQFP, Jedec, Metric, 14 x 14 x 1.0mm, 100 Lead; RoHS: N; PinCount: 100; Code_JEDEC: MS-026-AED; ComponentLink1Description: Manufacturer URL; ComponentLink1URL: http://www.national.com/; ComponentLink2Description: DS90CF388 Datasheet; ComponentLink2URL: http://www.national.com/ds/DS/DS90CF388.pdf; ComponentLink3Description: DS90CF388 Web Page; ComponentLink3URL: http://www.national.com/pf/DS/DS90CF388.html; ComponentLink4Description: VJD100A Package Page; ComponentLink4URL: http://www.national.com/packaging/folders/vjd100a.html
footprint VJD100A_N (Thin QFP, 100-Leads, Body 14x14mm, Pitch 0.5mm, IPC Medium Density)
footprint VJD100A_L (Thin QFP, 100-Leads, Body 14x14mm, Pitch 0.5mm, IPC High Density)
footprint VJD100A_M (Thin QFP, 100-Leads, Body 14x14mm, Pitch 0.5mm, IPC Low Density)
part A pins: 4 DESKEW (in), 5 PLLSEL (in), 6 BAL (in), 8 R10 (in), 9 R11 (in), 10 R12 (in), 11 R13 (in), 12 R14 (in), 14 R15 (in), 15 R16 (in), 17 R17 (in), 18 G10 (in), 19 G11 (in), 20 G12 (in), 21 G13 (in), 22 G14 (in), 24 G15 (in), 26 G16 (in), 27 G17 (in), 28 B10 (in), 29 B11 (in), 30 B12 (in), 31 B13 (in), 32 B14 (in), 34 B15 (in), 36 B16 (in), 37 B17 (in), 38 R20 (in), 39 R21 (in), 40 R22 (in), 41 R23 (in), 42 CLKOUT (out), 43 R24 (in), 46 R25 (in), 47 R26 (in), 48 R27 (in), 49 G20 (in), 50 G21 (in), 51 G22 (in), 52 G23 (in), 53 G24 (in), 55 G25 (in), 57 G26 (in), 58 G27 (in), 59 B20 (in), 60 B21 (in), 61 B22 (in), 62 B23 (in), 64 B24 (in), 65 B25 (in), 67 B26 (in), 68 B27 (in), 69 DE (in), 70 VSYNC (in), 71 HSYNC (in), 73 STOPCLK (out), 74 CNTLF/NC (out), 75 CNTLE/NC (out), 77 R_FDE (in), 78 ~{PD} (in), 79 A7P (out), 80 A7M (out), 82 A6P (out), 83 A6M (out), 84 A5P (out), 85 A5M (out), 86 A4P (out), 87 A4M (out), 89 A3P (out), 90 A3M (out), 91 CLKP (out), 92 CLKM (out), 94 A2P (out), 95 A2M (out), 96 A1P (out), 97 A1M (out), 98 A0P (out), 99 A0M (out)
part B pins: 1 PLLGND (power), 2 PLLVCC (power), 3 PLLGND (power), 7 GND (power), 13 VCC (power), 16 GND (power), 23 VCC (power), 25 GND (power), 33 VCC (power), 35 GND (power), 44 GND (power), 45 VCC (power), 54 GND (power), 56 VCC (power), 63 GND (power), 66 VCC (power), 72 GND (power), 76 LVDSGND (power), 81 LVDSVCC (power), 88 LVDSGND (power), 93 LVDSVCC (power), 100 LVDSGND (power)

## DS90CF388VJD/NOPB
designator U?
+3.3V Dual Pixel LVDS Display Interface (LDI)-SVGA/QXGA, 100-pin TQFP, Pb-Free; PartNumber: DS90CF388VJD/NOPB; Manufacturer: National Semiconductor; PackageTopMarking: NS2ZXYYTTE#*DS90CF388VJD*BBBBB; PowerWise: N; CompType: Interface IC; High-Reliability: Y; DatasheetVersion: Feb-2006; PackageVersion: revC, May-2004; PackageReference: VJD100A; PackageDescription: TQFP, Jedec, Metric, 14 x 14 x 1.0mm, 100 Lead; RoHS: Y; PinCount: 100; Code_JEDEC: MS-026-AED; ComponentLink1Description: Manufacturer URL; ComponentLink1URL: http://www.national.com/; ComponentLink2Description: DS90CF388 Datasheet; ComponentLink2URL: http://www.national.com/ds/DS/DS90CF388.pdf; ComponentLink3Description: DS90CF388 Web Page; ComponentLink3URL: http://www.national.com/pf/DS/DS90CF388.html; ComponentLink4Description: VJD100A Package Page; ComponentLink4URL: http://www.national.com/packaging/folders/vjd100a.html
footprint VJD100A_N (Thin QFP, 100-Leads, Body 14x14mm, Pitch 0.5mm, IPC Medium Density)
footprint VJD100A_L (Thin QFP, 100-Leads, Body 14x14mm, Pitch 0.5mm, IPC High Density)
footprint VJD100A_M (Thin QFP, 100-Leads, Body 14x14mm, Pitch 0.5mm, IPC Low Density)
part A pins: 4 DESKEW (in), 5 PLLSEL (in), 6 BAL (in), 8 R10 (in), 9 R11 (in), 10 R12 (in), 11 R13 (in), 12 R14 (in), 14 R15 (in), 15 R16 (in), 17 R17 (in), 18 G10 (in), 19 G11 (in), 20 G12 (in), 21 G13 (in), 22 G14 (in), 24 G15 (in), 26 G16 (in), 27 G17 (in), 28 B10 (in), 29 B11 (in), 30 B12 (in), 31 B13 (in), 32 B14 (in), 34 B15 (in), 36 B16 (in), 37 B17 (in), 38 R20 (in), 39 R21 (in), 40 R22 (in), 41 R23 (in), 42 CLKOUT (out), 43 R24 (in), 46 R25 (in), 47 R26 (in), 48 R27 (in), 49 G20 (in), 50 G21 (in), 51 G22 (in), 52 G23 (in), 53 G24 (in), 55 G25 (in), 57 G26 (in), 58 G27 (in), 59 B20 (in), 60 B21 (in), 61 B22 (in), 62 B23 (in), 64 B24 (in), 65 B25 (in), 67 B26 (in), 68 B27 (in), 69 DE (in), 70 VSYNC (in), 71 HSYNC (in), 73 STOPCLK (out), 74 CNTLF/NC (out), 75 CNTLE/NC (out), 77 R_FDE (in), 78 ~{PD} (in), 79 A7P (out), 80 A7M (out), 82 A6P (out), 83 A6M (out), 84 A5P (out), 85 A5M (out), 86 A4P (out), 87 A4M (out), 89 A3P (out), 90 A3M (out), 91 CLKP (out), 92 CLKM (out), 94 A2P (out), 95 A2M (out), 96 A1P (out), 97 A1M (out), 98 A0P (out), 99 A0M (out)
part B pins: 1 PLLGND (power), 2 PLLVCC (power), 3 PLLGND (power), 7 GND (power), 13 VCC (power), 16 GND (power), 23 VCC (power), 25 GND (power), 33 VCC (power), 35 GND (power), 44 GND (power), 45 VCC (power), 54 GND (power), 56 VCC (power), 63 GND (power), 66 VCC (power), 72 GND (power), 76 LVDSGND (power), 81 LVDSVCC (power), 88 LVDSGND (power), 93 LVDSVCC (power), 100 LVDSGND (power)

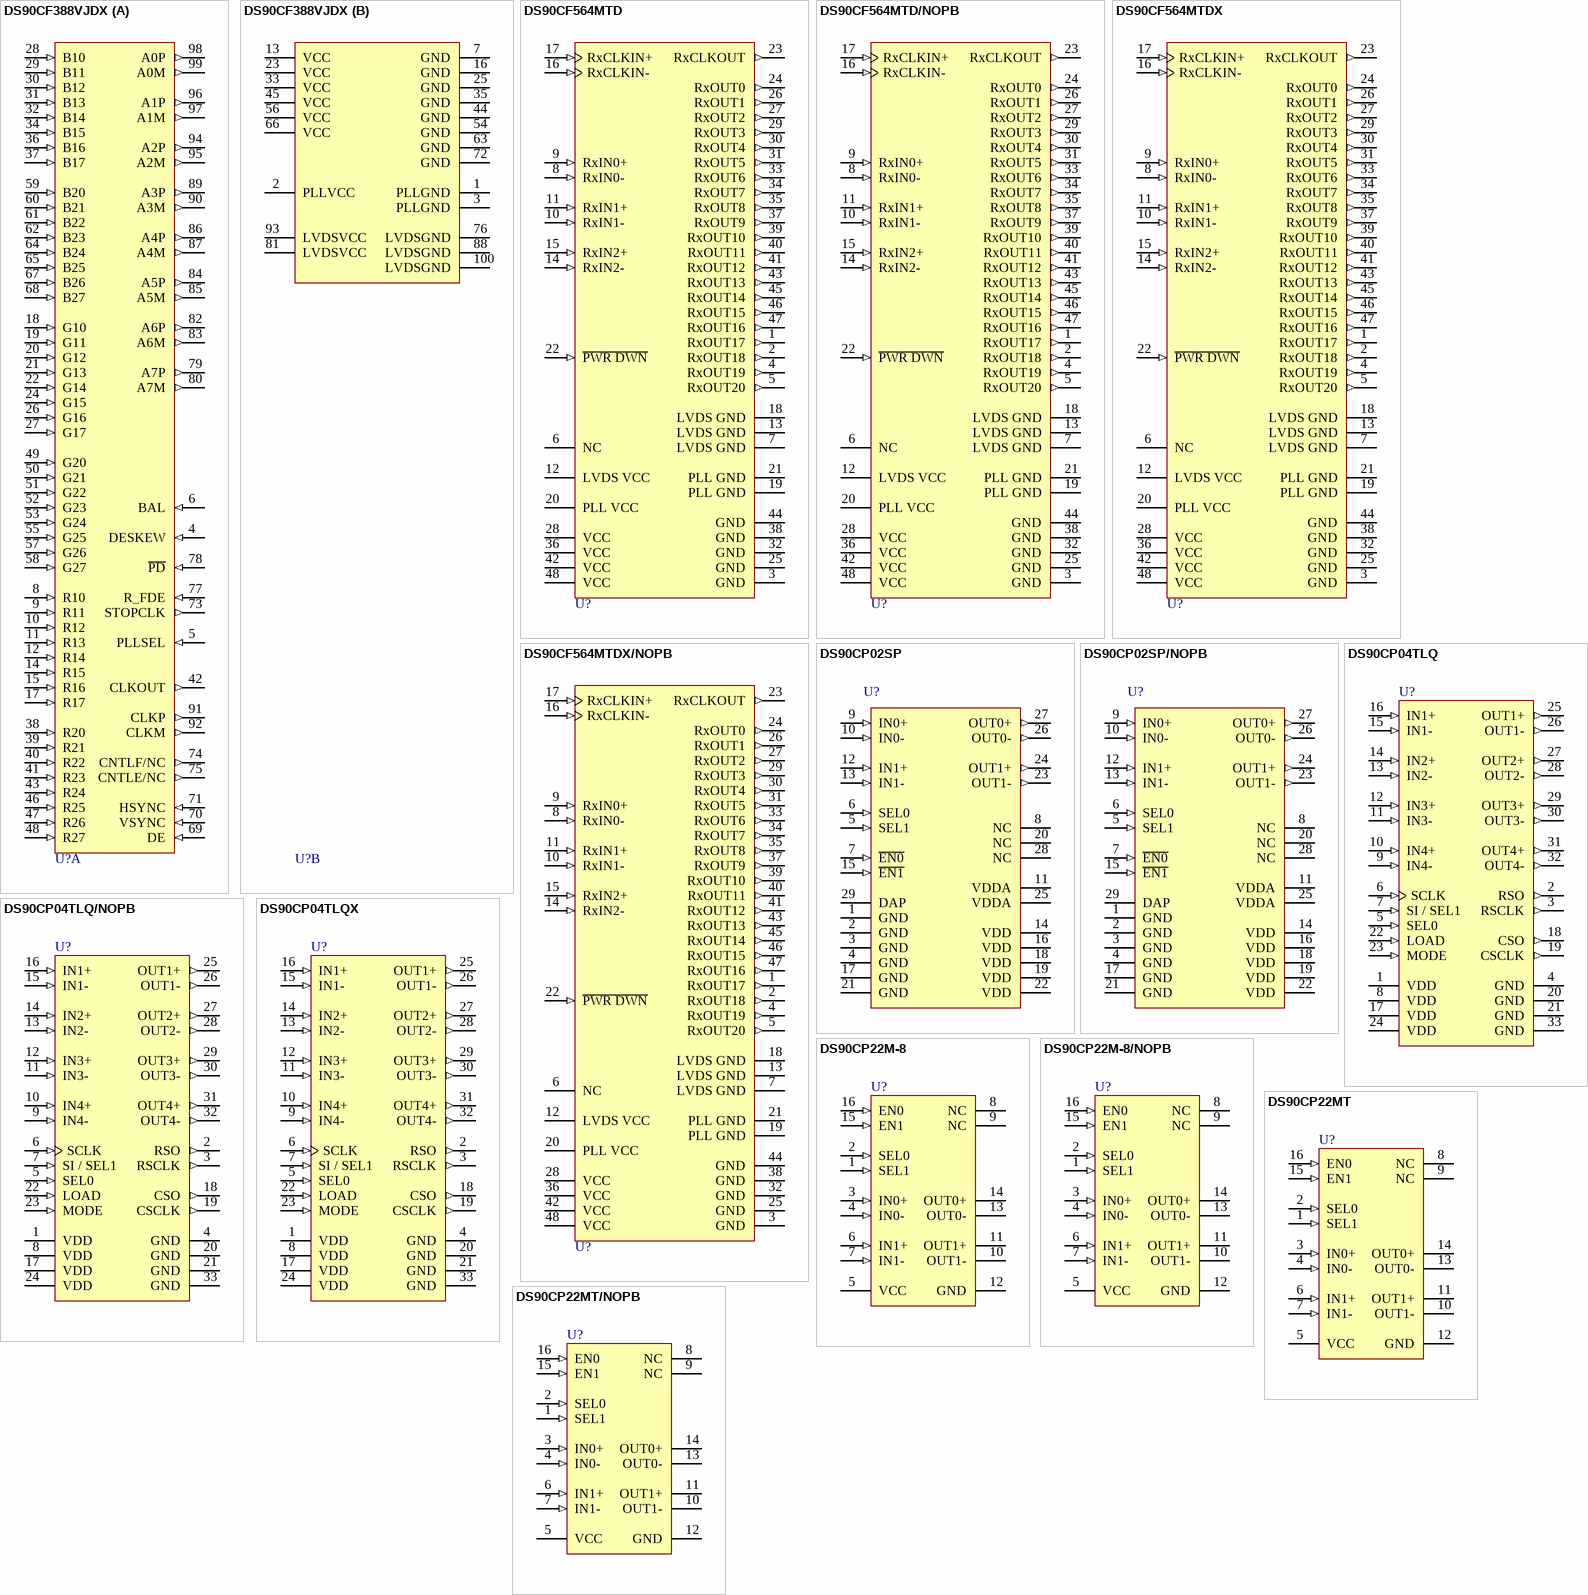
[diagram p43: symbols DS90CF388VJDX to DS90CP22MT/NOPB]

## DS90CF388VJDX
designator U?
+3.3V Dual Pixel LVDS Display Interface (LDI)-SVGA/QXGA, 100-pin TQFP; PartNumber: DS90CF388VJDX; Manufacturer: National Semiconductor; PackageTopMarking: NS2ZXYYTTE#*DS90CF388VJD*BBBBB; PowerWise: N; CompType: Interface IC; High-Reliability: Y; DatasheetVersion: Feb-2006; PackageVersion: revC, May-2004; PackageReference: VJD100A; PackageDescription: TQFP, Jedec, Metric, 14 x 14 x 1.0mm, 100 Lead; RoHS: N; PinCount: 100; Code_JEDEC: MS-026-AED; ComponentLink1Description: Manufacturer URL; ComponentLink1URL: http://www.national.com/; ComponentLink2Description: DS90CF388 Datasheet; ComponentLink2URL: http://www.national.com/ds/DS/DS90CF388.pdf; ComponentLink3Description: DS90CF388 Web Page; ComponentLink3URL: http://www.national.com/pf/DS/DS90CF388.html; ComponentLink4Description: VJD100A Package Page; ComponentLink4URL: http://www.national.com/packaging/folders/vjd100a.html
footprint VJD100A_N (Thin QFP, 100-Leads, Body 14x14mm, Pitch 0.5mm, IPC Medium Density)
footprint VJD100A_L (Thin QFP, 100-Leads, Body 14x14mm, Pitch 0.5mm, IPC High Density)
footprint VJD100A_M (Thin QFP, 100-Leads, Body 14x14mm, Pitch 0.5mm, IPC Low Density)
part A pins: 4 DESKEW (in), 5 PLLSEL (in), 6 BAL (in), 8 R10 (in), 9 R11 (in), 10 R12 (in), 11 R13 (in), 12 R14 (in), 14 R15 (in), 15 R16 (in), 17 R17 (in), 18 G10 (in), 19 G11 (in), 20 G12 (in), 21 G13 (in), 22 G14 (in), 24 G15 (in), 26 G16 (in), 27 G17 (in), 28 B10 (in), 29 B11 (in), 30 B12 (in), 31 B13 (in), 32 B14 (in), 34 B15 (in), 36 B16 (in), 37 B17 (in), 38 R20 (in), 39 R21 (in), 40 R22 (in), 41 R23 (in), 42 CLKOUT (out), 43 R24 (in), 46 R25 (in), 47 R26 (in), 48 R27 (in), 49 G20 (in), 50 G21 (in), 51 G22 (in), 52 G23 (in), 53 G24 (in), 55 G25 (in), 57 G26 (in), 58 G27 (in), 59 B20 (in), 60 B21 (in), 61 B22 (in), 62 B23 (in), 64 B24 (in), 65 B25 (in), 67 B26 (in), 68 B27 (in), 69 DE (in), 70 VSYNC (in), 71 HSYNC (in), 73 STOPCLK (out), 74 CNTLF/NC (out), 75 CNTLE/NC (out), 77 R_FDE (in), 78 ~{PD} (in), 79 A7P (out), 80 A7M (out), 82 A6P (out), 83 A6M (out), 84 A5P (out), 85 A5M (out), 86 A4P (out), 87 A4M (out), 89 A3P (out), 90 A3M (out), 91 CLKP (out), 92 CLKM (out), 94 A2P (out), 95 A2M (out), 96 A1P (out), 97 A1M (out), 98 A0P (out), 99 A0M (out)
part B pins: 1 PLLGND (power), 2 PLLVCC (power), 3 PLLGND (power), 7 GND (power), 13 VCC (power), 16 GND (power), 23 VCC (power), 25 GND (power), 33 VCC (power), 35 GND (power), 44 GND (power), 45 VCC (power), 54 GND (power), 56 VCC (power), 63 GND (power), 66 VCC (power), 72 GND (power), 76 LVDSGND (power), 81 LVDSVCC (power), 88 LVDSGND (power), 93 LVDSVCC (power), 100 LVDSGND (power)

## DS90CF564MTD
designator U?
LVDS 18-Bit Color Flat Panel Display (FPD) Link - 65 MHz, 48-pin TSSOP; PartNumber: DS90CF564MTD; Manufacturer: National Semiconductor; PackageTopMarking: NSUZXYTTE#*DS90CF564MTD*BBBBB; PowerWise: N; CompType: Interface IC; High-Reliability: Y; DatasheetVersion: Jul-1997; PackageVersion: revE, Apr-2003; PackageReference: MTD48; PackageDescription: Molded TSSOP, Jedec, 12.5 x 6.1 x 0.9mm Body, 48 Lead, 0.50mm Pitch; RoHS: N; PinCount: 48; Code_JEDEC: MO-153-ED; ComponentLink1Description: Manufacturer URL; ComponentLink1URL: http://www.national.com/; ComponentLink2Description: DS90CF564 Datasheet; ComponentLink2URL: http://www.national.com/ds/DS/DS90CF564.pdf; ComponentLink3Description: DS90CF564 Web Page; ComponentLink3URL: http://www.national.com/pf/DS/DS90CF564.html; ComponentLink4Description: MTD48 Package Page; ComponentLink4URL: http://www.national.com/packaging/folders/mtd48.html
footprint MTD48_N (TSSOP, 48-Leads, Body 12.5x6.1mm, Pitch 0.5mm, IPC Medium Density)
footprint MTD48_L (TSSOP, 48-Leads, Body 12.5x6.1mm, Pitch 0.5mm, IPC High Density)
footprint MTD48_M (TSSOP, 48-Leads, Body 12.5x6.1mm, Pitch 0.5mm, IPC Low Density)
pins: 1 RxOUT17 (out), 2 RxOUT18 (out), 3 GND (power), 4 RxOUT19 (out), 5 RxOUT20 (out), 6 NC, 7 LVDS GND (power), 8 RxIN0- (in), 9 RxIN0+ (in), 10 RxIN1- (in), 11 RxIN1+ (in), 12 LVDS VCC (power), 13 LVDS GND (power), 14 RxIN2- (in), 15 RxIN2+ (in), 16 RxCLKIN- (in), 17 RxCLKIN+ (in), 18 LVDS GND (power), 19 PLL GND (power), 20 PLL VCC (power), 21 PLL GND (power), 22 ~{PWR DWN} (in), 23 RxCLKOUT (out), 24 RxOUT0 (out), 25 GND (power), 26 RxOUT1 (out), 27 RxOUT2 (out), 28 VCC (power), 29 RxOUT3 (out), 30 RxOUT4 (out), 31 RxOUT5 (out), 32 GND (power), 33 RxOUT6 (out), 34 RxOUT7 (out), 35 RxOUT8 (out), 36 VCC (power), 37 RxOUT9 (out), 38 GND (power), 39 RxOUT10 (out), 40 RxOUT11 (out), 41 RxOUT12 (out), 42 VCC (power), 43 RxOUT13 (out), 44 GND (power), 45 RxOUT14 (out), 46 RxOUT15 (out), 47 RxOUT16 (out), 48 VCC (power)

## DS90CF564MTD/NOPB
designator U?
LVDS 18-Bit Color Flat Panel Display (FPD) Link - 65 MHz, 48-pin TSSOP, Pb-Free; PartNumber: DS90CF564MTD/NOPB; Manufacturer: National Semiconductor; PackageTopMarking: NSUZXYTTE#*DS90CF564MTD*BBBBB; PowerWise: N; CompType: Interface IC; High-Reliability: Y; DatasheetVersion: Jul-1997; PackageVersion: revE, Apr-2003; PackageReference: MTD48; PackageDescription: Molded TSSOP, Jedec, 12.5 x 6.1 x 0.9mm Body, 48 Lead, 0.50mm Pitch; RoHS: Y; PinCount: 48; Code_JEDEC: MO-153-ED; ComponentLink1Description: Manufacturer URL; ComponentLink1URL: http://www.national.com/; ComponentLink2Description: DS90CF564 Datasheet; ComponentLink2URL: http://www.national.com/ds/DS/DS90CF564.pdf; ComponentLink3Description: DS90CF564 Web Page; ComponentLink3URL: http://www.national.com/pf/DS/DS90CF564.html; ComponentLink4Description: MTD48 Package Page; ComponentLink4URL: http://www.national.com/packaging/folders/mtd48.html
footprint MTD48_N (TSSOP, 48-Leads, Body 12.5x6.1mm, Pitch 0.5mm, IPC Medium Density)
footprint MTD48_L (TSSOP, 48-Leads, Body 12.5x6.1mm, Pitch 0.5mm, IPC High Density)
footprint MTD48_M (TSSOP, 48-Leads, Body 12.5x6.1mm, Pitch 0.5mm, IPC Low Density)
pins: 1 RxOUT17 (out), 2 RxOUT18 (out), 3 GND (power), 4 RxOUT19 (out), 5 RxOUT20 (out), 6 NC, 7 LVDS GND (power), 8 RxIN0- (in), 9 RxIN0+ (in), 10 RxIN1- (in), 11 RxIN1+ (in), 12 LVDS VCC (power), 13 LVDS GND (power), 14 RxIN2- (in), 15 RxIN2+ (in), 16 RxCLKIN- (in), 17 RxCLKIN+ (in), 18 LVDS GND (power), 19 PLL GND (power), 20 PLL VCC (power), 21 PLL GND (power), 22 ~{PWR DWN} (in), 23 RxCLKOUT (out), 24 RxOUT0 (out), 25 GND (power), 26 RxOUT1 (out), 27 RxOUT2 (out), 28 VCC (power), 29 RxOUT3 (out), 30 RxOUT4 (out), 31 RxOUT5 (out), 32 GND (power), 33 RxOUT6 (out), 34 RxOUT7 (out), 35 RxOUT8 (out), 36 VCC (power), 37 RxOUT9 (out), 38 GND (power), 39 RxOUT10 (out), 40 RxOUT11 (out), 41 RxOUT12 (out), 42 VCC (power), 43 RxOUT13 (out), 44 GND (power), 45 RxOUT14 (out), 46 RxOUT15 (out), 47 RxOUT16 (out), 48 VCC (power)

## DS90CF564MTDX
designator U?
LVDS 18-Bit Color Flat Panel Display (FPD) Link - 65 MHz, 48-pin TSSOP; PartNumber: DS90CF564MTDX; Manufacturer: National Semiconductor; PackageTopMarking: NSUZXYTTE#*DS90CF564MTD*BBBBB; PowerWise: N; CompType: Interface IC; High-Reliability: Y; DatasheetVersion: Jul-1997; PackageVersion: revE, Apr-2003; PackageReference: MTD48; PackageDescription: Molded TSSOP, Jedec, 12.5 x 6.1 x 0.9mm Body, 48 Lead, 0.50mm Pitch; RoHS: N; PinCount: 48; Code_JEDEC: MO-153-ED; ComponentLink1Description: Manufacturer URL; ComponentLink1URL: http://www.national.com/; ComponentLink2Description: DS90CF564 Datasheet; ComponentLink2URL: http://www.national.com/ds/DS/DS90CF564.pdf; ComponentLink3Description: DS90CF564 Web Page; ComponentLink3URL: http://www.national.com/pf/DS/DS90CF564.html; ComponentLink4Description: MTD48 Package Page; ComponentLink4URL: http://www.national.com/packaging/folders/mtd48.html
footprint MTD48_N (TSSOP, 48-Leads, Body 12.5x6.1mm, Pitch 0.5mm, IPC Medium Density)
footprint MTD48_L (TSSOP, 48-Leads, Body 12.5x6.1mm, Pitch 0.5mm, IPC High Density)
footprint MTD48_M (TSSOP, 48-Leads, Body 12.5x6.1mm, Pitch 0.5mm, IPC Low Density)
pins: 1 RxOUT17 (out), 2 RxOUT18 (out), 3 GND (power), 4 RxOUT19 (out), 5 RxOUT20 (out), 6 NC, 7 LVDS GND (power), 8 RxIN0- (in), 9 RxIN0+ (in), 10 RxIN1- (in), 11 RxIN1+ (in), 12 LVDS VCC (power), 13 LVDS GND (power), 14 RxIN2- (in), 15 RxIN2+ (in), 16 RxCLKIN- (in), 17 RxCLKIN+ (in), 18 LVDS GND (power), 19 PLL GND (power), 20 PLL VCC (power), 21 PLL GND (power), 22 ~{PWR DWN} (in), 23 RxCLKOUT (out), 24 RxOUT0 (out), 25 GND (power), 26 RxOUT1 (out), 27 RxOUT2 (out), 28 VCC (power), 29 RxOUT3 (out), 30 RxOUT4 (out), 31 RxOUT5 (out), 32 GND (power), 33 RxOUT6 (out), 34 RxOUT7 (out), 35 RxOUT8 (out), 36 VCC (power), 37 RxOUT9 (out), 38 GND (power), 39 RxOUT10 (out), 40 RxOUT11 (out), 41 RxOUT12 (out), 42 VCC (power), 43 RxOUT13 (out), 44 GND (power), 45 RxOUT14 (out), 46 RxOUT15 (out), 47 RxOUT16 (out), 48 VCC (power)

## DS90CF564MTDX/NOPB
designator U?
LVDS 18-Bit Color Flat Panel Display (FPD) Link - 65 MHz, 48-pin TSSOP, Pb-Free; PartNumber: DS90CF564MTDX/NOPB; Manufacturer: National Semiconductor; PackageTopMarking: NSUZXYTTE#*DS90CF564MTD*BBBBB; PowerWise: N; CompType: Interface IC; High-Reliability: Y; DatasheetVersion: Jul-1997; PackageVersion: revE, Apr-2003; PackageReference: MTD48; PackageDescription: Molded TSSOP, Jedec, 12.5 x 6.1 x 0.9mm Body, 48 Lead, 0.50mm Pitch; RoHS: Y; PinCount: 48; Code_JEDEC: MO-153-ED; ComponentLink1Description: Manufacturer URL; ComponentLink1URL: http://www.national.com/; ComponentLink2Description: DS90CF564 Datasheet; ComponentLink2URL: http://www.national.com/ds/DS/DS90CF564.pdf; ComponentLink3Description: DS90CF564 Web Page; ComponentLink3URL: http://www.national.com/pf/DS/DS90CF564.html; ComponentLink4Description: MTD48 Package Page; ComponentLink4URL: http://www.national.com/packaging/folders/mtd48.html
footprint MTD48_N (TSSOP, 48-Leads, Body 12.5x6.1mm, Pitch 0.5mm, IPC Medium Density)
footprint MTD48_L (TSSOP, 48-Leads, Body 12.5x6.1mm, Pitch 0.5mm, IPC High Density)
footprint MTD48_M (TSSOP, 48-Leads, Body 12.5x6.1mm, Pitch 0.5mm, IPC Low Density)
pins: 1 RxOUT17 (out), 2 RxOUT18 (out), 3 GND (power), 4 RxOUT19 (out), 5 RxOUT20 (out), 6 NC, 7 LVDS GND (power), 8 RxIN0- (in), 9 RxIN0+ (in), 10 RxIN1- (in), 11 RxIN1+ (in), 12 LVDS VCC (power), 13 LVDS GND (power), 14 RxIN2- (in), 15 RxIN2+ (in), 16 RxCLKIN- (in), 17 RxCLKIN+ (in), 18 LVDS GND (power), 19 PLL GND (power), 20 PLL VCC (power), 21 PLL GND (power), 22 ~{PWR DWN} (in), 23 RxCLKOUT (out), 24 RxOUT0 (out), 25 GND (power), 26 RxOUT1 (out), 27 RxOUT2 (out), 28 VCC (power), 29 RxOUT3 (out), 30 RxOUT4 (out), 31 RxOUT5 (out), 32 GND (power), 33 RxOUT6 (out), 34 RxOUT7 (out), 35 RxOUT8 (out), 36 VCC (power), 37 RxOUT9 (out), 38 GND (power), 39 RxOUT10 (out), 40 RxOUT11 (out), 41 RxOUT12 (out), 42 VCC (power), 43 RxOUT13 (out), 44 GND (power), 45 RxOUT14 (out), 46 RxOUT15 (out), 47 RxOUT16 (out), 48 VCC (power)

## DS90CP02SP
designator U?
1.5 Gbps 2x2 LVDS Crosspoint Switch, 28-pin LLP; PartNumber: DS90CP02SP; Manufacturer: National Semiconductor; PackageTopMarking: NS*UZXYTT*CP02SP; PowerWise: N; CompType: Interface IC; High-Reliability: Y; DatasheetVersion: Nov-2008; PackageVersion: revA, Aug-2003; PackageReference: SPA28A; PackageDescription: LLP, Plastic, Quad, 5 x 5 x 0.6mm Body, 28 Lead, 0.5mm Pitch, No Pullback; RoHS: Y; PinCount: 28; Code_JEDEC: MO-220-WHHD-3; ComponentLink1Description: Manufacturer URL; ComponentLink1URL: http://www.national.com/; ComponentLink2Description: DS90CP02 Datasheet; ComponentLink2URL: http://www.national.com/ds/DS/DS90CP02.pdf; ComponentLink3Description: DS90CP02 Web Page; ComponentLink3URL: http://www.national.com/pf/DS/DS90CP02.html; ComponentLink4Description: SPA28A Package Page; ComponentLink4URL: http://www.national.com/packaging/folders/spa28a.html
footprint SPA28A (QFN, 28-Leads, Body 5x5mm, Pitch 0.5mm, Thermal Pad 3.7x3.7mm, NSC Recommended)
pins: 1 GND (power), 2 GND (power), 3 GND (power), 4 GND (power), 5 SEL1 (in), 6 SEL0 (in), 7 ~{EN0} (in), 8 NC, 9 IN0+ (in), 10 IN0- (in), 11 VDDA (power), 12 IN1+ (in), 13 IN1- (in), 14 VDD (power), 15 ~{EN1} (in), 16 VDD (power), 17 GND (power), 18 VDD (power), 19 VDD (power), 20 NC, 21 GND (power), 22 VDD (power), 23 OUT1- (out), 24 OUT1+ (out), 25 VDDA (power), 26 OUT0- (out), 27 OUT0+ (out), 28 NC, 29 DAP

## DS90CP02SP/NOPB
designator U?
1.5 Gbps 2x2 LVDS Crosspoint Switch, 28-pin LLP, Pb-Free; PartNumber: DS90CP02SP/NOPB; Manufacturer: National Semiconductor; PackageTopMarking: NS*UZXYTT*CP02SP; PowerWise: N; CompType: Interface IC; High-Reliability: Y; DatasheetVersion: Nov-2008; PackageVersion: revA, Aug-2003; PackageReference: SPA28A; PackageDescription: LLP, Plastic, Quad, 5 x 5 x 0.6mm Body, 28 Lead, 0.5mm Pitch, No Pullback; RoHS: Y; PinCount: 28; Code_JEDEC: MO-220-WHHD-3; ComponentLink1Description: Manufacturer URL; ComponentLink1URL: http://www.national.com/; ComponentLink2Description: DS90CP02 Datasheet; ComponentLink2URL: http://www.national.com/ds/DS/DS90CP02.pdf; ComponentLink3Description: DS90CP02 Web Page; ComponentLink3URL: http://www.national.com/pf/DS/DS90CP02.html; ComponentLink4Description: SPA28A Package Page; ComponentLink4URL: http://www.national.com/packaging/folders/spa28a.html
footprint SPA28A (QFN, 28-Leads, Body 5x5mm, Pitch 0.5mm, Thermal Pad 3.7x3.7mm, NSC Recommended)
pins: 1 GND (power), 2 GND (power), 3 GND (power), 4 GND (power), 5 SEL1 (in), 6 SEL0 (in), 7 ~{EN0} (in), 8 NC, 9 IN0+ (in), 10 IN0- (in), 11 VDDA (power), 12 IN1+ (in), 13 IN1- (in), 14 VDD (power), 15 ~{EN1} (in), 16 VDD (power), 17 GND (power), 18 VDD (power), 19 VDD (power), 20 NC, 21 GND (power), 22 VDD (power), 23 OUT1- (out), 24 OUT1+ (out), 25 VDDA (power), 26 OUT0- (out), 27 OUT0+ (out), 28 NC, 29 DAP

## DS90CP04TLQ
designator U?
1.5 Gbps 4x4 LVDS Crosspoint Switch, 32-pin LLP; PartNumber: DS90CP04TLQ; Manufacturer: National Semiconductor; PackageTopMarking: NS*UZXYTTE#*90CP04T; PowerWise: N; CompType: Interface IC; High-Reliability: Y; DatasheetVersion: Dec-2007; PackageVersion: revA, Feb-2001; PackageReference: LQA32A; PackageDescription: LLP, Plastic, Quad, 6 x 6 x 0.8mm Body, 32 Lead, 0.5mm Pitch; RoHS: N; PinCount: 32; ComponentLink1Description: Manufacturer URL; ComponentLink1URL: http://www.national.com/; ComponentLink2Description: DS90CP04 Datasheet; ComponentLink2URL: http://www.national.com/ds/DS/DS90CP04.pdf; ComponentLink3Description: DS90CP04 Web Page; ComponentLink3URL: http://www.national.com/pf/DS/DS90CP04.html; ComponentLink4Description: LQA32A Package Page; ComponentLink4URL: http://www.national.com/packaging/folders/lqa32a.html
footprint LQA32A (PQFN, 32-Leads, Body 6x6mm, Pitch 0.5mm, Thermal Pad 4.3x4.3mm, NSC Recommended)
pins: 1 VDD (power), 2 RSO (out), 3 RSCLK (out), 4 GND (power), 5 SEL0 (in), 6 SCLK (in), 7 SI / SEL1 (in), 8 VDD (power), 9 IN4- (in), 10 IN4+ (in), 11 IN3- (in), 12 IN3+ (in), 13 IN2- (in), 14 IN2+ (in), 15 IN1- (in), 16 IN1+ (in), 17 VDD (power), 18 CSO (out), 19 CSCLK (out), 20 GND (power), 21 GND (power), 22 LOAD (in), 23 MODE (in), 24 VDD (power), 25 OUT1+ (out), 26 OUT1- (out), 27 OUT2+ (out), 28 OUT2- (out), 29 OUT3+ (out), 30 OUT3- (out), 31 OUT4+ (out), 32 OUT4- (out), 33 GND (power)